# Altium footprint library AltiumV15.PcbLib: 4 footprints
Each footprint in its own frame and in the unit in brackets; x right, y up, seen from the top. Pads: shape width x height; smd on the part's side, far side on the other; paste and mask are expansions set on the pad; w line width, h text height; cw(c..) or ccw(c..) is an arc to the next point about the centre after c.
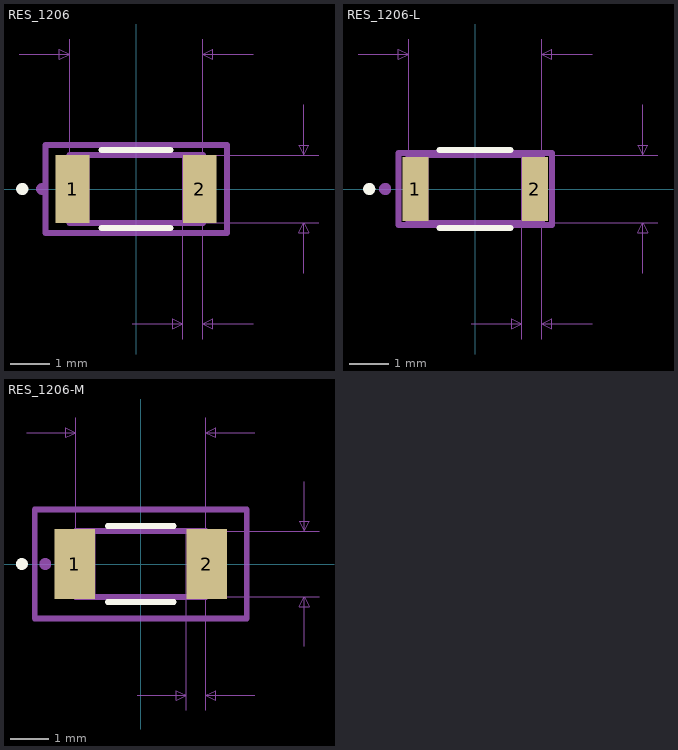
[diagram p0: the footprints below, top view; thin cyan lines are the x and y axes]

## PCBComponent_1 [mm]

## RES_1206 [mm]
pads (2):
  rect 0.85x1.7 smd: 1(-1.6,0) 2(1.6,0)
Top Layer keep-out:
  region: 
Top Overlay:
  circle w0.152: c-2.863,0 r0.076
  lines w0.152: -0.867,-0.977 0.867,-0.977 ; -0.867,0.977 0.867,0.977
Mechanical 1:
  circle w0.025: c-1.473,0 r0.076
  lines w0.025: -1.675,-0.85 -1.675,0.85 ; -1.675,-0.85 1.675,-0.85 ; -1.675,-0.85 -1.175,-0.85 -1.175,0.85 -1.675,0.85 ; -1.675,-0.85 -1.675,0.85 ; -1.675,0.85 1.675,0.85 ; 1.675,-0.85 1.675,0.85 ; 1.675,-0.85 1.675,0.85 ; 1.675,-0.85 1.175,-0.85 1.175,0.85 1.675,0.85
Mechanical 16:
  circle w0.152: c-2.362,0 r0.076
  lines w0.025: -2.945,3.39 -1.675,3.39 ; -1.675,0 -1.675,3.771 ; -0.095,-3.39 1.175,-3.39 ; 0,-0.85 4.596,-0.85 ; 0,0.85 4.596,0.85 ; 1.175,-3.771 1.175,0 ; 1.675,-3.771 1.675,0 1.675,3.771 ; 2.945,-3.39 1.675,-3.39 ; 2.945,3.39 1.675,3.39 ; 4.215,-2.12 4.215,-0.85 ; 4.215,2.12 4.215,0.85 ; -1.675,3.39 -1.929,3.263 -1.929,3.517 -1.675,3.39 ; 1.175,-3.39 0.921,-3.517 0.921,-3.263 1.175,-3.39 ; 1.675,-3.39 1.929,-3.517 1.929,-3.263 1.675,-3.39 ; 1.675,3.39 1.929,3.263 1.929,3.517 1.675,3.39 ; 4.215,-0.85 4.342,-1.104 4.088,-1.104 4.215,-0.85 ; 4.215,0.85 4.342,1.104 4.088,1.104 4.215,0.85
  lines w0.152: -2.279,-1.104 2.279,-1.104 2.279,1.104 -2.279,1.104 -2.279,-1.104 ; -1.675,-0.85 1.675,-0.85 1.675,0.85 -1.675,0.85 -1.675,-0.85
  text "0.02in/0.5mm" at 1.425,-3.898 h0.4
  text "0.132in/3.35mm" at 0,3.898 h0.4
  text "0.067in/1.7mm" at 4.723,0 h0.4
  text "Alt 2 Padstyle: b229_152h76" at 0,-9.486 h0.79
  text "Alt 1 Padstyle: b152_229h76" at 0,-7.962 h0.79
  text "Default Padstyle: r85_170" at 0,-6.438 h0.79
Mechanical 16 keep-out:
  region: 
  region: 

## RES_1206-L [mm]
pads (2):
  rect 0.65x1.6 smd: 1(-1.5,0) 2(1.5,0)
Top Layer keep-out:
  region: 
Top Overlay:
  circle w0.152: c-2.663,0 r0.076
  lines w0.152: -0.893,-0.977 0.893,-0.977 ; -0.893,0.977 0.893,0.977
Mechanical 1:
  circle w0.025: c-1.373,0 r0.076
  lines w0.025: -1.675,-0.85 -1.675,0.85 ; -1.675,-0.85 1.675,-0.85 ; -1.675,-0.85 -1.175,-0.85 -1.175,0.85 -1.675,0.85 ; -1.675,-0.85 -1.675,0.85 ; -1.675,0.85 1.675,0.85 ; 1.675,-0.85 1.675,0.85 ; 1.675,-0.85 1.675,0.85 ; 1.675,-0.85 1.175,-0.85 1.175,0.85 1.675,0.85
Mechanical 16:
  circle w0.152: c-2.262,0 r0.076
  lines w0.025: -2.945,3.39 -1.675,3.39 ; -1.675,0 -1.675,3.771 ; -0.095,-3.39 1.175,-3.39 ; 0,-0.85 4.596,-0.85 ; 0,0.85 4.596,0.85 ; 1.175,-3.771 1.175,0 ; 1.675,-3.771 1.675,0 1.675,3.771 ; 2.945,-3.39 1.675,-3.39 ; 2.945,3.39 1.675,3.39 ; 4.215,-2.12 4.215,-0.85 ; 4.215,2.12 4.215,0.85 ; -1.675,3.39 -1.929,3.263 -1.929,3.517 -1.675,3.39 ; 1.175,-3.39 0.921,-3.517 0.921,-3.263 1.175,-3.39 ; 1.675,-3.39 1.929,-3.517 1.929,-3.263 1.675,-3.39 ; 1.675,3.39 1.929,3.263 1.929,3.517 1.675,3.39 ; 4.215,-0.85 4.342,-1.104 4.088,-1.104 4.215,-0.85 ; 4.215,0.85 4.342,1.104 4.088,1.104 4.215,0.85
  lines w0.152: -1.927,-0.902 1.927,-0.902 1.927,0.902 -1.927,0.902 -1.927,-0.902 ; -1.675,-0.85 1.675,-0.85 1.675,0.85 -1.675,0.85 -1.675,-0.85
  text "0.02in/0.5mm" at 1.425,-3.898 h0.4
  text "0.132in/3.35mm" at 0,3.898 h0.4
  text "0.067in/1.7mm" at 4.723,0 h0.4
  text "Alt 2 Padstyle: b229_152h76" at 0,-9.436 h0.79
  text "Alt 1 Padstyle: b152_229h76" at 0,-7.912 h0.79
  text "Default Padstyle: r65_160" at 0,-6.388 h0.79
Mechanical 16 keep-out:
  region: 
  region: 

## RES_1206-M [mm]
pads (2):
  rect 1.05x1.8 smd: 1(-1.7,0) 2(1.7,0)
Top Layer keep-out:
  region: 
Top Overlay:
  circle w0.152: c-3.063,0 r0.076
  lines w0.152: -0.851,-0.977 0.851,-0.977 ; -0.851,0.977 0.851,0.977
Mechanical 1:
  circle w0.025: c-1.573,0 r0.076
  lines w0.025: -1.675,-0.85 -1.675,0.85 ; -1.675,-0.85 1.675,-0.85 ; -1.675,-0.85 -1.175,-0.85 -1.175,0.85 -1.675,0.85 ; -1.675,-0.85 -1.675,0.85 ; -1.675,0.85 1.675,0.85 ; 1.675,-0.85 1.675,0.85 ; 1.675,-0.85 1.675,0.85 ; 1.675,-0.85 1.175,-0.85 1.175,0.85 1.675,0.85
Mechanical 16:
  circle w0.152: c-2.462,0 r0.076
  lines w0.025: -2.945,3.39 -1.675,3.39 ; -1.675,0 -1.675,3.771 ; -0.095,-3.39 1.175,-3.39 ; 0,-0.85 4.596,-0.85 ; 0,0.85 4.596,0.85 ; 1.175,-3.771 1.175,0 ; 1.675,-3.771 1.675,0 1.675,3.771 ; 2.945,-3.39 1.675,-3.39 ; 2.945,3.39 1.675,3.39 ; 4.215,-2.12 4.215,-0.85 ; 4.215,2.12 4.215,0.85 ; -1.675,3.39 -1.929,3.263 -1.929,3.517 -1.675,3.39 ; 1.175,-3.39 0.921,-3.517 0.921,-3.263 1.175,-3.39 ; 1.675,-3.39 1.929,-3.517 1.929,-3.263 1.675,-3.39 ; 1.675,3.39 1.929,3.263 1.929,3.517 1.675,3.39 ; 4.215,-0.85 4.342,-1.104 4.088,-1.104 4.215,-0.85 ; 4.215,0.85 4.342,1.104 4.088,1.104 4.215,0.85
  lines w0.152: -2.733,-1.408 2.733,-1.408 2.733,1.408 -2.733,1.408 -2.733,-1.408 ; -1.675,-0.85 1.675,-0.85 1.675,0.85 -1.675,0.85 -1.675,-0.85
  text "0.02in/0.5mm" at 1.425,-3.898 h0.4
  text "0.132in/3.35mm" at 0,3.898 h0.4
  text "0.067in/1.7mm" at 4.723,0 h0.4
  text "Alt 2 Padstyle: b229_152h76" at 0,-9.536 h0.79
  text "Alt 1 Padstyle: b152_229h76" at 0,-8.012 h0.79
  text "Default Padstyle: r105_180" at 0,-6.488 h0.79
Mechanical 16 keep-out:
  region: 
  region: 